# EAGLE library part RCR-433-MPR (library radiotronix)
RCR-433-MPR Radiotronix 433 MHz receiver
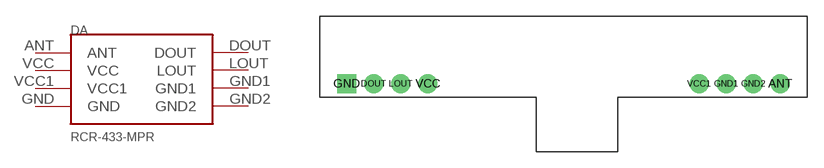
[diagram p0: symbol with the pads of RCR-433-MPR; footprint RCR-433-MPR]

Designator prefix DA

## RCR-433-MPR  [RCR-433-MPR]
ANT  ANT  sup
DOUT  DOUT  sup
GND  GND  sup
GND1  GND1  sup
GND2  GND2  sup
LOUT  LOUT  sup
VCC  VCC  sup
VCC1  VCC1  sup

## Footprint RCR-433-MPR (pad centres in mm)
drill 0.8 pad 1.778 round: ANT 40.64,0; DOUT 2.54,0; GND1 35.56,0; GND2 38.1,0; LOUT 5.08,0; VCC 7.62,0; VCC1 33.02,0
drill 0.8 pad 1.778 square: GND 0,0